# EAGLE library part HIF3FC-14PA-2.54DSA(71) (library HIF3FC)
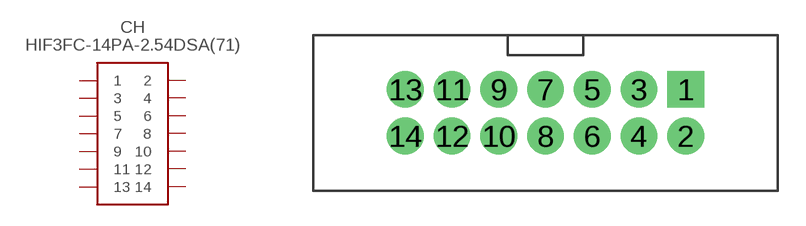
[diagram p0: symbol with the pads of HIF3FC-14PA-2.54DSA(71); footprint HIF3FC-14PA-2.54DSA(71)]

Designator prefix CH

## HIF3FC-14PA-2.54DSA(71)  [HIF3FC-14PA-2.54DSA(71)]
1  1
2  2
3  3
4  4
5  5
6  6
7  7
8  8
9  9
10  10
11  11
12  12
13  13
14  14

## Footprint HIF3FC-14PA-2.54DSA(71) (pad centres in mm)
drill 1 pad 2 square: 1 7.62,1.29
drill 1 pad 2: 2 7.62,-1.25; 3 5.08,1.29; 4 5.08,-1.25; 5 2.54,1.29; 6 2.54,-1.25; 7 0,1.29; 8 0,-1.25; 9 -2.54,1.29; 10 -2.54,-1.25; 11 -5.08,1.29; 12 -5.08,-1.25; 13 -7.62,1.29; 14 -7.62,-1.25